# Altium footprint library ped.PcbLib: 4 footprints
Each footprint in its own frame and in the unit in brackets; x right, y up, seen from the top. Pads: shape width x height; smd on the part's side, far side on the other; paste and mask are expansions set on the pad; w line width, h text height; cw(c..) or ccw(c..) is an arc to the next point about the centre after c.
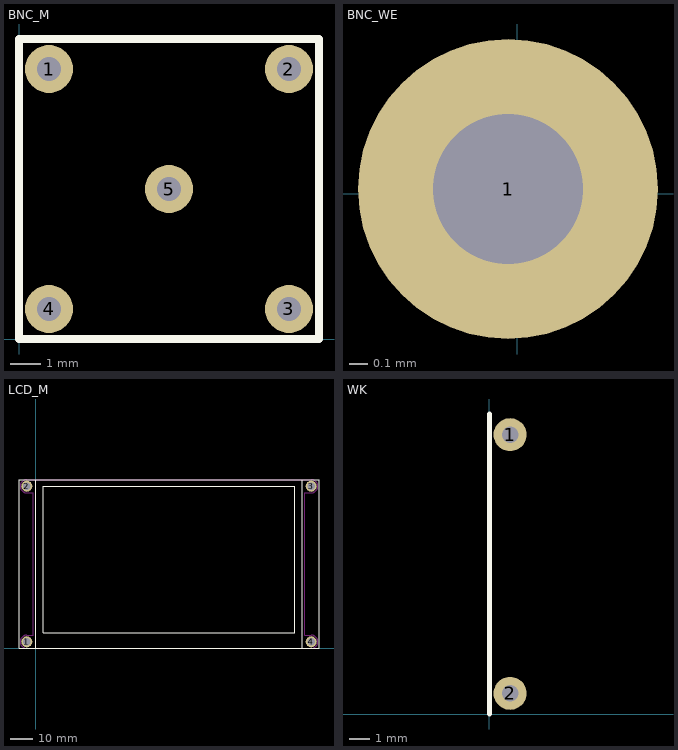
[diagram p0: the footprints below, top view; thin cyan lines are the x and y axes]

## BNC_M [mm]
pads (5):
  round 1.6 hole 0.8: 1(1,9) 2(9,9) 3(9,1) 4(1,1) 5(5,5)
Top Overlay:
  lines w0.254: 0,0 10,0 10,10 0,10 0,0
3D body: height 15.05, standoff 1.6, extent 10,-1.737 11,11.737
3D body: height 14.1, standoff 1.6, extent 0,0 10,10
3D body: height 14.3, standoff 2.35, extent 11,-0.988 18,10.988
3D body: height 13.06, standoff 3.6, extent 18,0 30,9.481

## BNC_WE [mm]
pads (1):
  round 1.6 hole 0.8: 1(-0.05,0.025)
3D body: height 8.3, standoff 0, extent -6.251,-6.213 6.2,6.263
3D body: height 18, standoff 8.3, extent -4.762,-4.715 4.7,4.766

## LCD_M [mm]
pads (4):
  round 5 hole 3.2: 1(-4,3) 2(-4,73) 3(124,73) 4(124,3)
Top Overlay:
  lines w0.254: 0,0 120,0 ; 0,0 0,76 ; 0,0 -7.5,0 -7.5,76 0,76 ; 0,76 120,76 ; 120,0 120,76 ; 120,0 127.5,0 127.5,76 120,76 ; 3.5,7 116.5,7 116.5,73 3.5,73 3.5,7
Keep-Out Layer:
  lines w0.254: 121,76 124,76 cw(c124,73) 127,73 cw(c124,73) 124,70 121,70 121,6 124,6 cw(c124,3) 127,3 cw(c124,3) 124,0 -1,0 -4,0 cw(c-4,3) -7,3 cw(c-4,3) -4,6 -1,6 -1,7 -1,70 -4,70 cw(c-4,73) -7,73 cw(c-4,73) -4,76 123,76
3D body: height 1.6, standoff 0, extent -7.5,0 127.5,76
3D body: height 18.2, standoff 16.6, extent -7.5,0 127.5,76
3D body: height 20.81, standoff 18.2, extent 3.5,7 116.5,73
3D body: height 20.8, standoff 18.2, extent 0,0 120,76
3D body: height 16.6, standoff 1.6, extent -7.5,0 127.5,76

## WK [mm]
pads (2):
  round 1.6 hole 0.8: 1(1,13.5) 2(1,1)
Top Overlay:
  lines w0.254: 0,0 0,14.5
3D body: height 16, standoff 2.45, extent 0,0.463 4.5,14.037
3D body: height 16.44, standoff 2, extent 4.5,0.039 16.5,14.511